# Altium footprint library WE-LAN.PcbLib: 41 footprints (part 3 of 3)
Each footprint in its own frame and in the unit in brackets; x right, y up, seen from the top. Pads: shape width x height; smd on the part's side, far side on the other; paste and mask are expansions set on the pad; w line width, h text height; cw(c..) or ccw(c..) is an arc to the next point about the centre after c.
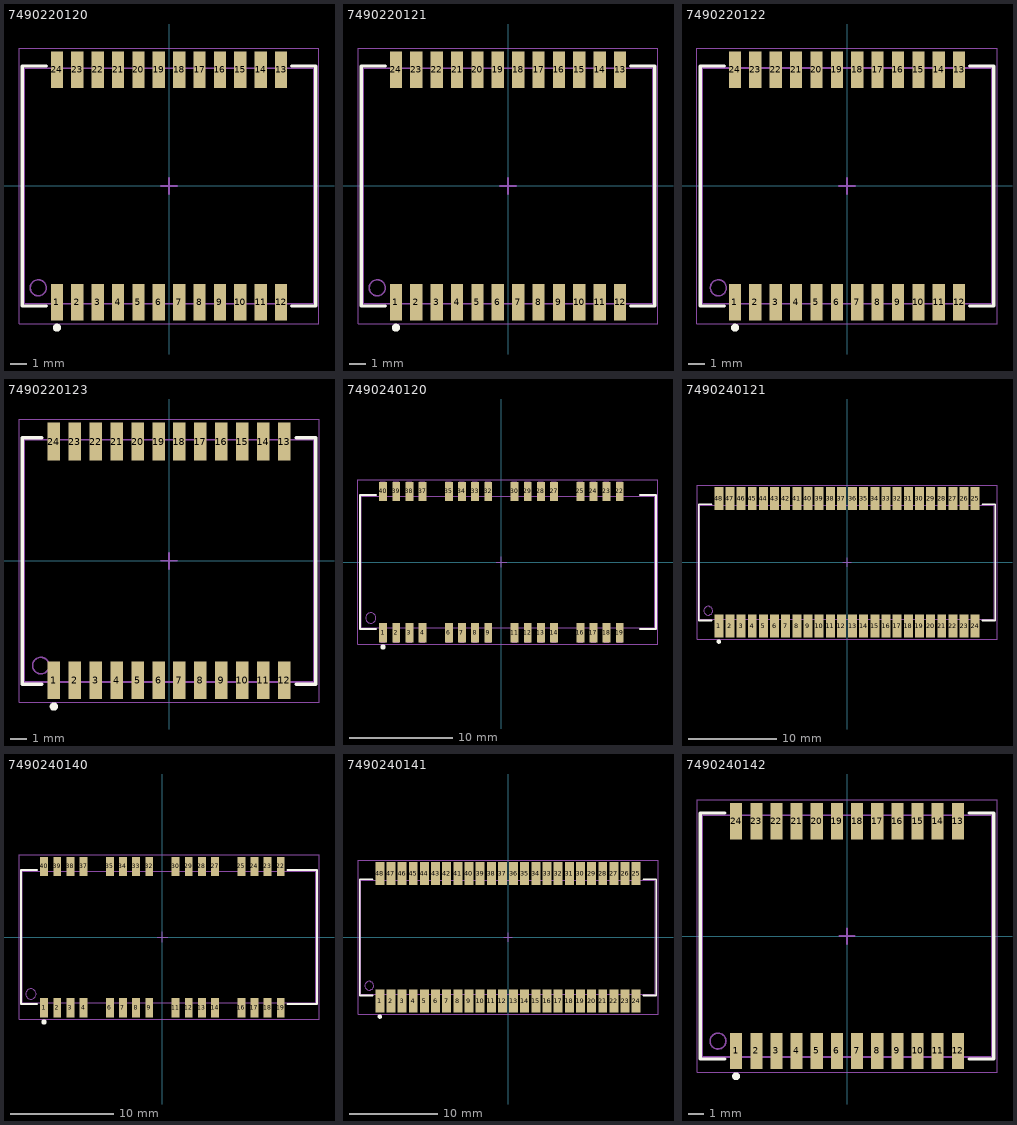
[diagram p2: the footprints below, top view; thin cyan lines are the x and y axes]

## 7490220120 [mm] "SMD LAN Transformers, body 18.04x14.7mm, 24-Leads"
height 6.15
pads (24):
  rect 0.76x2.29 smd: 1(-6.985,-7.24) 2(-5.715,-7.24) 3(-4.445,-7.24) 4(-3.175,-7.24) 5(-1.905,-7.24) 6(-0.635,-7.24) 7(0.635,-7.24) 8(1.905,-7.24) 9(3.175,-7.24) 10(4.445,-7.24) 11(5.715,-7.24) 12(6.985,-7.24) 13(6.985,7.24) 14(5.715,7.24) 15(4.445,7.24) 16(3.175,7.24) 17(1.905,7.24) 18(0.635,7.24) 19(-0.635,7.24) 20(-1.905,7.24) 21(-3.175,7.24) 22(-4.445,7.24) 23(-5.715,7.24) 24(-6.985,7.24)
Top Overlay:
  circle w0.25: c-6.985,-8.835 r0.125
  lines w0.2: -7.65,-7.475 -9.145,-7.475 -9.145,7.475 -7.65,7.475 ; 7.65,-7.475 9.145,-7.475 9.145,7.475 7.65,7.475
Top Assembly:
  circle w0.1: c-8.15,-6.35 r0.5
  lines w0.1: -9.02,-7.35 -9.02,7.35 9.02,7.35 9.02,-7.35 -9.02,-7.35
Top Designator:
  text ".Designator" at -3.647,-0.357 h1
Top Courtyard:
  lines w0.05: -9.35,-8.585 9.35,-8.585 9.35,8.585 -9.35,8.585 -9.35,-8.585
Top Component Center:
  lines w0.1: -0.5,0 0.5,0 ; 0,-0.5 0,0.5
3D body "7490220120.stp": height 6.15, standoff 0, extent -9.145,-8 9.145,8

## 7490220121 [mm] "SMD LAN Transformers, body 18.04x14.7mm, 24-Leads"
height 7.45
pads (24):
  rect 0.76x2.29 smd: 1(-6.985,-7.24) 2(-5.715,-7.24) 3(-4.445,-7.24) 4(-3.175,-7.24) 5(-1.905,-7.24) 6(-0.635,-7.24) 7(0.635,-7.24) 8(1.905,-7.24) 9(3.175,-7.24) 10(4.445,-7.24) 11(5.715,-7.24) 12(6.985,-7.24) 13(6.985,7.24) 14(5.715,7.24) 15(4.445,7.24) 16(3.175,7.24) 17(1.905,7.24) 18(0.635,7.24) 19(-0.635,7.24) 20(-1.905,7.24) 21(-3.175,7.24) 22(-4.445,7.24) 23(-5.715,7.24) 24(-6.985,7.24)
Top Overlay:
  circle w0.25: c-6.985,-8.835 r0.125
  lines w0.2: -7.65,-7.475 -9.145,-7.475 -9.145,7.475 -7.65,7.475 ; 7.65,-7.475 9.145,-7.475 9.145,7.475 7.65,7.475
Top Assembly:
  circle w0.1: c-8.15,-6.35 r0.5
  lines w0.1: -9.02,-7.35 -9.02,7.35 9.02,7.35 9.02,-7.35 -9.02,-7.35
Top Designator:
  text ".Designator" at -3.647,-0.357 h1
Top Courtyard:
  lines w0.05: -9.35,-8.585 9.35,-8.585 9.35,8.585 -9.35,8.585 -9.35,-8.585
Top Component Center:
  lines w0.1: -0.5,0 0.5,0 ; 0,-0.5 0,0.5
3D body "7490220121.stp": height 7.2, standoff 0, extent -8.75,-8 8.75,8

## 7490220122 [mm] "SMD LAN Transformers, body 18.04x14.7mm, 24-Leads"
height 9.05
pads (24):
  rect 0.76x2.29 smd: 1(-6.985,-7.24) 2(-5.715,-7.24) 3(-4.445,-7.24) 4(-3.175,-7.24) 5(-1.905,-7.24) 6(-0.635,-7.24) 7(0.635,-7.24) 8(1.905,-7.24) 9(3.175,-7.24) 10(4.445,-7.24) 11(5.715,-7.24) 12(6.985,-7.24) 13(6.985,7.24) 14(5.715,7.24) 15(4.445,7.24) 16(3.175,7.24) 17(1.905,7.24) 18(0.635,7.24) 19(-0.635,7.24) 20(-1.905,7.24) 21(-3.175,7.24) 22(-4.445,7.24) 23(-5.715,7.24) 24(-6.985,7.24)
Top Overlay:
  circle w0.25: c-6.985,-8.835 r0.125
  lines w0.2: -7.65,-7.475 -9.145,-7.475 -9.145,7.475 -7.65,7.475 ; 7.65,-7.475 9.145,-7.475 9.145,7.475 7.65,7.475
Top Assembly:
  circle w0.1: c-8.02,-6.35 r0.5
  lines w0.1: -9.02,-7.35 9.02,-7.35 9.02,7.35 -9.02,7.35 -9.02,-7.35
Top Designator:
  text ".Designator" at -3.647,-0.357 h1
Top Courtyard:
  lines w0.05: -9.35,-8.585 -9.35,8.58 9.345,8.58 9.345,-8.585 -9.35,-8.585
Top Component Center:
  lines w0.1: -0.5,0 0.5,0 ; 0,-0.5 0,0.5
3D body "7490220122.stp": height 9.05, standoff 0, extent -8.75,-8 8.75,8

## 7490220123 [mm] "SMD LAN Transformers, body 18.04x14.7mm, 24-Leads"
height 9.05
pads (24):
  rect 0.76x2.29 smd: 1(-6.985,-7.24) 2(-5.715,-7.24) 3(-4.445,-7.24) 4(-3.175,-7.24) 5(-1.905,-7.24) 6(-0.635,-7.24) 7(0.635,-7.24) 8(1.905,-7.24) 9(3.175,-7.24) 10(4.445,-7.24) 11(5.715,-7.24) 12(6.985,-7.24) 13(6.985,7.24) 14(5.715,7.24) 15(4.445,7.24) 16(3.175,7.24) 17(1.905,7.24) 18(0.635,7.24) 19(-0.635,7.24) 20(-1.905,7.24) 21(-3.175,7.24) 22(-4.445,7.24) 23(-5.715,7.24) 24(-6.985,7.24)
Top Overlay:
  circle w0.25: c-6.985,-8.835 r0.125
  lines w0.2: -7.7,-7.475 -8.9,-7.475 -8.9,7.475 -7.7,7.475 ; 7.7,-7.475 8.9,-7.475 8.9,7.475 7.7,7.475
Top Assembly:
  circle w0.1: c-7.775,-6.35 r0.5
  lines w0.1: -8.775,-7.35 8.775,-7.35 8.775,7.35 -8.775,7.35 -8.775,-7.35
Top Designator:
  text ".Designator" at -3.647,-0.357 h1
Top Courtyard:
  lines w0.05: -9.1,-8.585 -9.1,8.585 9.1,8.585 9.1,-8.585 -9.1,-8.585
Top Component Center:
  lines w0.1: -0.5,0 0.5,0 ; 0,-0.5 0,0.5
3D body "Download_STP_7490220123_rev1.stp": height 9.05, standoff 0, extent -9.145,-8 9.145,8

## 7490240120 [mm] "SMD LAN Transformers, body 28.32x12.7mm, 32-Leads"
height 12.7
pads (32):
  rect 0.76x1.86 smd: 1(-11.43,-6.815) 2(-10.16,-6.815) 3(-8.89,-6.815) 4(-7.62,-6.815) 6(-5.08,-6.815) 7(-3.81,-6.815) 8(-2.54,-6.815) 9(-1.27,-6.815) 11(1.27,-6.815) 12(2.54,-6.815) 13(3.81,-6.815) 14(5.08,-6.815) 16(7.62,-6.815) 17(8.89,-6.815) 18(10.16,-6.815) 19(11.43,-6.815) 22(11.43,6.815) 23(10.16,6.815) 24(8.89,6.815) 25(7.62,6.815) 27(5.08,6.815) 28(3.81,6.815) 29(2.54,6.815) 30(1.27,6.815) 32(-1.27,6.815) 33(-2.54,6.815) 34(-3.81,6.815) 35(-5.08,6.815) 37(-7.62,6.815) 38(-8.89,6.815) 39(-10.16,6.815) 40(-11.43,6.815)
Top Overlay:
  circle w0.25: c-11.43,-8.195 r0.125
  lines w0.2: -12.115,-6.475 -13.65,-6.475 -13.65,6.475 -12.115,6.475 ; 13.385,-6.475 14.92,-6.475 14.92,6.475 13.385,6.475
Top Assembly:
  circle w0.1: c-12.615,-5.4 r0.5
  lines w0.1: -11.655,-6.35 -11.655,-7.75 -11.205,-7.75 -11.205,-6.35 ; -11.655,6.35 -11.655,7.75 -11.205,7.75 -11.205,6.35 ; -10.385,-6.35 -10.385,-7.75 -9.935,-7.75 -9.935,-6.35 ; -10.385,6.35 -10.385,7.75 -9.935,7.75 -9.935,6.35 ; -9.115,-6.35 -9.115,-7.75 -8.665,-7.75 -8.665,-6.35 ; -9.115,6.35 -9.115,7.75 -8.665,7.75 -8.665,6.35 ; -7.845,-6.35 -7.845,-7.75 -7.395,-7.75 -7.395,-6.35 ; -7.845,6.35 -7.845,7.75 -7.395,7.75 -7.395,6.35 ; -5.305,-6.35 -5.305,-7.75 -4.855,-7.75 -4.855,-6.35 ; -5.305,6.35 -5.305,7.75 -4.855,7.75 -4.855,6.35 ; -4.035,-6.35 -4.035,-7.75 -3.585,-7.75 -3.585,-6.35 ; -4.035,6.35 -4.035,7.75 -3.585,7.75 -3.585,6.35 ; -2.765,-6.35 -2.765,-7.75 -2.315,-7.75 -2.315,-6.35 ; -2.765,6.35 -2.765,7.75 -2.315,7.75 -2.315,6.35 ; -1.495,-6.35 -1.495,-7.75 -1.045,-7.75 -1.045,-6.35 ; -1.495,6.35 -1.495,7.75 -1.045,7.75 -1.045,6.35 ; 1.045,-6.35 1.045,-7.75 1.495,-7.75 1.495,-6.35 ; 1.045,6.35 1.045,7.75 1.495,7.75 1.495,6.35 ; 2.315,-6.35 2.315,-7.75 2.765,-7.75 2.765,-6.35 ; 2.315,6.35 2.315,7.75 2.765,7.75 2.765,6.35 ; 3.585,-6.35 3.585,-7.75 4.035,-7.75 4.035,-6.35 ; 3.585,6.35 3.585,7.75 4.035,7.75 4.035,6.35 ; 4.855,-6.35 4.855,-7.75 5.305,-7.75 5.305,-6.35 ; 4.855,6.35 4.855,7.75 5.305,7.75 5.305,6.35 ; 7.395,-6.35 7.395,-7.75 7.845,-7.75 7.845,-6.35 ; 7.395,6.35 7.395,7.75 7.845,7.75 7.845,6.35 ; 8.665,-6.35 8.665,-7.75 9.115,-7.75 9.115,-6.35 ; 8.665,6.35 8.665,7.75 9.115,7.75 9.115,6.35 ; 9.935,-6.35 9.935,-7.75 10.385,-7.75 10.385,-6.35 ; 9.935,6.35 9.935,7.75 10.385,7.75 10.385,6.35 ; 11.205,-6.35 11.205,-7.75 11.655,-7.75 11.655,-6.35 ; 11.205,6.35 11.205,7.75 11.655,7.75 11.655,6.35 ; -13.525,-6.35 -13.525,6.35 14.795,6.35 14.795,-6.35 -13.525,-6.35
Top Designator:
  text ".Designator" at -3.647,-0.357 h1
Top Courtyard:
  lines w0.05: -13.85,-7.945 15.12,-7.945 15.12,7.945 -13.85,7.945 -13.85,-7.945
Top Component Center:
  lines w0.1: -0.5,0 0.5,0 ; 0,-0.5 0,0.5
3D body "7490240120.stp": height 12.7, standoff 0, extent -13.65,-7.745 14.92,7.745

## 7490240121 [mm] "SMD LAN Transformers, body 33.53x12.98mm, 48-Leads"
height 10.16
pads (48):
  rect 1.02x2.62 smd: 1(-14.605,-7.265) 2(-13.335,-7.265) 3(-12.065,-7.265) 4(-10.795,-7.265) 5(-9.525,-7.265) 6(-8.255,-7.265) 7(-6.985,-7.265) 8(-5.715,-7.265) 9(-4.445,-7.265) 10(-3.175,-7.265) 11(-1.905,-7.265) 12(-0.635,-7.265) 13(0.635,-7.265) 14(1.905,-7.265) 15(3.175,-7.265) 16(4.445,-7.265) 17(5.715,-7.265) 18(6.985,-7.265) 19(8.255,-7.265) 20(9.525,-7.265) 21(10.795,-7.265) 22(12.065,-7.265) 23(13.335,-7.265) 24(14.605,-7.265) 25(14.605,7.265) 26(13.335,7.265) 27(12.065,7.265) 28(10.795,7.265) 29(9.525,7.265) 30(8.255,7.265) 31(6.985,7.265) 32(5.715,7.265) 33(4.445,7.265) 34(3.175,7.265) 35(1.905,7.265) 36(0.635,7.265) 37(-0.635,7.265) 38(-1.905,7.265) 39(-3.175,7.265) 40(-4.445,7.265) 41(-5.715,7.265) 42(-6.985,7.265) 43(-8.255,7.265) 44(-9.525,7.265) 45(-10.795,7.265) 46(-12.065,7.265) 47(-13.335,7.265) 48(-14.605,7.265)
Top Overlay:
  circle w0.25: c-14.605,-9.025 r0.125
  lines w0.2: -15.4,-6.615 -16.89,-6.615 -16.89,6.615 -15.4,6.615 ; 15.4,-6.615 16.89,-6.615 16.89,6.615 15.4,6.615
Top Assembly:
  circle w0.1: c-15.815,-5.515 r0.5
  lines w0.1: -14.805,-6.49 -14.805,-7.99 -14.405,-7.99 -14.405,-6.49 ; -14.805,6.49 -14.805,7.99 -14.405,7.99 -14.405,6.49 ; -13.535,-6.49 -13.535,-7.99 -13.135,-7.99 -13.135,-6.49 ; -13.535,6.49 -13.535,7.99 -13.135,7.99 -13.135,6.49 ; -12.265,-6.49 -12.265,-7.99 -11.865,-7.99 -11.865,-6.49 ; -12.265,6.49 -12.265,7.99 -11.865,7.99 -11.865,6.49 ; -10.995,-6.49 -10.995,-7.99 -10.595,-7.99 -10.595,-6.49 ; -10.995,6.49 -10.995,7.99 -10.595,7.99 -10.595,6.49 ; -9.725,-6.49 -9.725,-7.99 -9.325,-7.99 -9.325,-6.49 ; -9.725,6.49 -9.725,7.99 -9.325,7.99 -9.325,6.49 ; -8.455,-6.49 -8.455,-7.99 -8.055,-7.99 -8.055,-6.49 ; -8.455,6.49 -8.455,7.99 -8.055,7.99 -8.055,6.49 ; -7.185,-6.49 -7.185,-7.99 -6.785,-7.99 -6.785,-6.49 ; -7.185,6.49 -7.185,7.99 -6.785,7.99 -6.785,6.49 ; -5.915,-6.49 -5.915,-7.99 -5.515,-7.99 -5.515,-6.49 ; -5.915,6.49 -5.915,7.99 -5.515,7.99 -5.515,6.49 ; -4.645,-6.49 -4.645,-7.99 -4.245,-7.99 -4.245,-6.49 ; -4.645,6.49 -4.645,7.99 -4.245,7.99 -4.245,6.49 ; -3.375,-6.49 -3.375,-7.99 -2.975,-7.99 -2.975,-6.49 ; -3.375,6.49 -3.375,7.99 -2.975,7.99 -2.975,6.49 ; -2.105,-6.49 -2.105,-7.99 -1.705,-7.99 -1.705,-6.49 ; -2.105,6.49 -2.105,7.99 -1.705,7.99 -1.705,6.49 ; -0.835,-6.49 -0.835,-7.99 -0.435,-7.99 -0.435,-6.49 ; -0.835,6.49 -0.835,7.99 -0.435,7.99 -0.435,6.49 ; 0.435,-6.49 0.435,-7.99 0.835,-7.99 0.835,-6.49 ; 0.435,6.49 0.435,7.99 0.835,7.99 0.835,6.49 ; 1.705,-6.49 1.705,-7.99 2.105,-7.99 2.105,-6.49 ; 1.705,6.49 1.705,7.99 2.105,7.99 2.105,6.49 ; 2.975,-6.49 2.975,-7.99 3.375,-7.99 3.375,-6.49 ; 2.975,6.49 2.975,7.99 3.375,7.99 3.375,6.49 ; 4.245,-6.49 4.245,-7.99 4.645,-7.99 4.645,-6.49 ; 4.245,6.49 4.245,7.99 4.645,7.99 4.645,6.49 ; 5.515,-6.49 5.515,-7.99 5.915,-7.99 5.915,-6.49 ; 5.515,6.49 5.515,7.99 5.915,7.99 5.915,6.49 ; 6.785,-6.49 6.785,-7.99 7.185,-7.99 7.185,-6.49 ; 6.785,6.49 6.785,7.99 7.185,7.99 7.185,6.49 ; 8.055,-6.49 8.055,-7.99 8.455,-7.99 8.455,-6.49 ; 8.055,6.49 8.055,7.99 8.455,7.99 8.455,6.49 ; 9.325,-6.49 9.325,-7.99 9.725,-7.99 9.725,-6.49 ; 9.325,6.49 9.325,7.99 9.725,7.99 9.725,6.49 ; 10.595,-6.49 10.595,-7.99 10.995,-7.99 10.995,-6.49 ; 10.595,6.49 10.595,7.99 10.995,7.99 10.995,6.49 ; 11.865,-6.49 11.865,-7.99 12.265,-7.99 12.265,-6.49 ; 11.865,6.49 11.865,7.99 12.265,7.99 12.265,6.49 ; 13.135,-6.49 13.135,-7.99 13.535,-7.99 13.535,-6.49 ; 13.135,6.49 13.135,7.99 13.535,7.99 13.535,6.49 ; 14.405,-6.49 14.405,-7.99 14.805,-7.99 14.805,-6.49 ; 14.405,6.49 14.405,7.99 14.805,7.99 14.805,6.49 ; -16.765,-6.49 16.765,-6.49 16.765,6.49 -16.765,6.49 -16.765,-6.49
Top Designator:
  text ".Designator" at -3.647,-0.357 h1
Top Courtyard:
  lines w0.05: -17.09,-8.775 -17.09,8.775 17.09,8.775 17.09,-8.775 -17.09,-8.775
Top Component Center:
  lines w0.1: -0.5,0 0.5,0 ; 0,-0.5 0,0.5
3D body "7490240121.stp": height 10, standoff 0, extent -16.7,-8 16.7,8

## 7490240140 [mm] "SMD LAN Transformers, body 28.32x12.7mm, 32-Leads"
height 12.7
pads (32):
  rect 0.76x1.86 smd: 1(-11.43,-6.815) 2(-10.16,-6.815) 3(-8.89,-6.815) 4(-7.62,-6.815) 6(-5.08,-6.815) 7(-3.81,-6.815) 8(-2.54,-6.815) 9(-1.27,-6.815) 11(1.27,-6.815) 12(2.54,-6.815) 13(3.81,-6.815) 14(5.08,-6.815) 16(7.62,-6.815) 17(8.89,-6.815) 18(10.16,-6.815) 19(11.43,-6.815) 22(11.43,6.815) 23(10.16,6.815) 24(8.89,6.815) 25(7.62,6.815) 27(5.08,6.815) 28(3.81,6.815) 29(2.54,6.815) 30(1.27,6.815) 32(-1.27,6.815) 33(-2.54,6.815) 34(-3.81,6.815) 35(-5.08,6.815) 37(-7.62,6.815) 38(-8.89,6.815) 39(-10.16,6.815) 40(-11.43,6.815)
Top Overlay:
  circle w0.25: c-11.43,-8.195 r0.125
  lines w0.2: -12.1,-6.475 -13.65,-6.475 -13.65,6.475 -12.1,6.475 ; 12.1,-6.475 14.92,-6.475 14.92,6.475 12.1,6.475
Top Assembly:
  circle w0.1: c-12.7,-5.5 r0.5
  lines w0.1: -13.525,-6.35 -13.525,6.35 14.795,6.35 14.795,-6.35 -13.525,-6.35
Top Designator:
  text ".Designator" at -3.647,-0.357 h1
Top Courtyard:
  lines w0.05: -13.85,-7.945 15.12,-7.945 15.12,7.945 -13.85,7.945 -13.85,-7.945
Top Component Center:
  lines w0.1: -0.5,0 0.5,0 ; 0,-0.5 0,0.5
3D body "7490240140.stp": height 12.7, standoff 0, extent -13.65,-7.745 14.92,7.745

## 7490240141 [mm] "SMD LAN Transformers, body 33.53x12.98mm, 48-Leads"
height 10.16
pads (48):
  rect 1.02x2.62 smd: 1(-14.605,-7.265) 2(-13.335,-7.265) 3(-12.065,-7.265) 4(-10.795,-7.265) 5(-9.525,-7.265) 6(-8.255,-7.265) 7(-6.985,-7.265) 8(-5.715,-7.265) 9(-4.445,-7.265) 10(-3.175,-7.265) 11(-1.905,-7.265) 12(-0.635,-7.265) 13(0.635,-7.265) 14(1.905,-7.265) 15(3.175,-7.265) 16(4.445,-7.265) 17(5.715,-7.265) 18(6.985,-7.265) 19(8.255,-7.265) 20(9.525,-7.265) 21(10.795,-7.265) 22(12.065,-7.265) 23(13.335,-7.265) 24(14.605,-7.265) 25(14.605,7.265) 26(13.335,7.265) 27(12.065,7.265) 28(10.795,7.265) 29(9.525,7.265) 30(8.255,7.265) 31(6.985,7.265) 32(5.715,7.265) 33(4.445,7.265) 34(3.175,7.265) 35(1.905,7.265) 36(0.635,7.265) 37(-0.635,7.265) 38(-1.905,7.265) 39(-3.175,7.265) 40(-4.445,7.265) 41(-5.715,7.265) 42(-6.985,7.265) 43(-8.255,7.265) 44(-9.525,7.265) 45(-10.795,7.265) 46(-12.065,7.265) 47(-13.335,7.265) 48(-14.605,7.265)
Top Overlay:
  circle w0.25: c-14.605,-9.025 r0.125
  lines w0.2: -15.4,-6.615 -16.89,-6.615 -16.89,6.615 -15.4,6.615 ; 15.4,-6.615 16.89,-6.615 16.89,6.615 15.4,6.615
Top Assembly:
  circle w0.1: c-15.815,-5.515 r0.5
  lines w0.1: -14.805,-6.49 -14.805,-7.99 -14.405,-7.99 -14.405,-6.49 ; -14.805,6.49 -14.805,7.99 -14.405,7.99 -14.405,6.49 ; -13.535,-6.49 -13.535,-7.99 -13.135,-7.99 -13.135,-6.49 ; -13.535,6.49 -13.535,7.99 -13.135,7.99 -13.135,6.49 ; -12.265,-6.49 -12.265,-7.99 -11.865,-7.99 -11.865,-6.49 ; -12.265,6.49 -12.265,7.99 -11.865,7.99 -11.865,6.49 ; -10.995,-6.49 -10.995,-7.99 -10.595,-7.99 -10.595,-6.49 ; -10.995,6.49 -10.995,7.99 -10.595,7.99 -10.595,6.49 ; -9.725,-6.49 -9.725,-7.99 -9.325,-7.99 -9.325,-6.49 ; -9.725,6.49 -9.725,7.99 -9.325,7.99 -9.325,6.49 ; -8.455,-6.49 -8.455,-7.99 -8.055,-7.99 -8.055,-6.49 ; -8.455,6.49 -8.455,7.99 -8.055,7.99 -8.055,6.49 ; -7.185,-6.49 -7.185,-7.99 -6.785,-7.99 -6.785,-6.49 ; -7.185,6.49 -7.185,7.99 -6.785,7.99 -6.785,6.49 ; -5.915,-6.49 -5.915,-7.99 -5.515,-7.99 -5.515,-6.49 ; -5.915,6.49 -5.915,7.99 -5.515,7.99 -5.515,6.49 ; -4.645,-6.49 -4.645,-7.99 -4.245,-7.99 -4.245,-6.49 ; -4.645,6.49 -4.645,7.99 -4.245,7.99 -4.245,6.49 ; -3.375,-6.49 -3.375,-7.99 -2.975,-7.99 -2.975,-6.49 ; -3.375,6.49 -3.375,7.99 -2.975,7.99 -2.975,6.49 ; -2.105,-6.49 -2.105,-7.99 -1.705,-7.99 -1.705,-6.49 ; -2.105,6.49 -2.105,7.99 -1.705,7.99 -1.705,6.49 ; -0.835,-6.49 -0.835,-7.99 -0.435,-7.99 -0.435,-6.49 ; -0.835,6.49 -0.835,7.99 -0.435,7.99 -0.435,6.49 ; 0.435,-6.49 0.435,-7.99 0.835,-7.99 0.835,-6.49 ; 0.435,6.49 0.435,7.99 0.835,7.99 0.835,6.49 ; 1.705,-6.49 1.705,-7.99 2.105,-7.99 2.105,-6.49 ; 1.705,6.49 1.705,7.99 2.105,7.99 2.105,6.49 ; 2.975,-6.49 2.975,-7.99 3.375,-7.99 3.375,-6.49 ; 2.975,6.49 2.975,7.99 3.375,7.99 3.375,6.49 ; 4.245,-6.49 4.245,-7.99 4.645,-7.99 4.645,-6.49 ; 4.245,6.49 4.245,7.99 4.645,7.99 4.645,6.49 ; 5.515,-6.49 5.515,-7.99 5.915,-7.99 5.915,-6.49 ; 5.515,6.49 5.515,7.99 5.915,7.99 5.915,6.49 ; 6.785,-6.49 6.785,-7.99 7.185,-7.99 7.185,-6.49 ; 6.785,6.49 6.785,7.99 7.185,7.99 7.185,6.49 ; 8.055,-6.49 8.055,-7.99 8.455,-7.99 8.455,-6.49 ; 8.055,6.49 8.055,7.99 8.455,7.99 8.455,6.49 ; 9.325,-6.49 9.325,-7.99 9.725,-7.99 9.725,-6.49 ; 9.325,6.49 9.325,7.99 9.725,7.99 9.725,6.49 ; 10.595,-6.49 10.595,-7.99 10.995,-7.99 10.995,-6.49 ; 10.595,6.49 10.595,7.99 10.995,7.99 10.995,6.49 ; 11.865,-6.49 11.865,-7.99 12.265,-7.99 12.265,-6.49 ; 11.865,6.49 11.865,7.99 12.265,7.99 12.265,6.49 ; 13.135,-6.49 13.135,-7.99 13.535,-7.99 13.535,-6.49 ; 13.135,6.49 13.135,7.99 13.535,7.99 13.535,6.49 ; 14.405,-6.49 14.405,-7.99 14.805,-7.99 14.805,-6.49 ; 14.405,6.49 14.405,7.99 14.805,7.99 14.805,6.49 ; -16.765,-6.49 16.765,-6.49 16.765,6.49 -16.765,6.49 -16.765,-6.49
Top Designator:
  text ".Designator" at -3.647,-0.357 h1
Top Courtyard:
  lines w0.05: -17.09,-8.775 -17.09,8.775 17.09,8.775 17.09,-8.775 -17.09,-8.775
Top Component Center:
  lines w0.1: -0.5,0 0.5,0 ; 0,-0.5 0,0.5
3D body "7490240141.stp": height 10, standoff 0, extent -16.7,-8 16.7,8

## 7490240142 [mm] "SMD LAN Transformers, body 18.25x15.24mm, 24-Leads"
height 10.02
pads (24):
  rect 0.76x2.29 smd: 1(-6.985,-7.24) 2(-5.715,-7.24) 3(-4.445,-7.24) 4(-3.175,-7.24) 5(-1.905,-7.24) 6(-0.635,-7.24) 7(0.635,-7.24) 8(1.905,-7.24) 9(3.175,-7.24) 10(4.445,-7.24) 11(5.715,-7.24) 12(6.985,-7.24) 13(6.985,7.24) 14(5.715,7.24) 15(4.445,7.24) 16(3.175,7.24) 17(1.905,7.24) 18(0.635,7.24) 19(-0.635,7.24) 20(-1.905,7.24) 21(-3.175,7.24) 22(-4.445,7.24) 23(-5.715,7.24) 24(-6.985,7.24)
Top Overlay:
  circle w0.25: c-6.985,-8.835 r0.125
  lines w0.2: -7.7,-7.745 -9.25,-7.745 -9.25,7.745 -7.7,7.745 ; 7.7,-7.745 9.25,-7.745 9.25,7.745 7.7,7.745
Top Assembly:
  circle w0.1: c-8.125,-6.62 r0.5
  lines w0.1: -9.125,-7.62 -9.125,7.62 9.125,7.62 9.125,-7.62 -9.125,-7.62
Top Designator:
  text ".Designator" at -3.647,-0.357 h1
Top Courtyard:
  lines w0.05: -9.45,-8.585 9.45,-8.585 9.45,8.585 -9.45,8.585 -9.45,-8.585
Top Component Center:
  lines w0.1: -0.5,0 0.5,0 ; 0,-0.5 0,0.5
3D body "7490240142.stp": height 10.02, standoff 0, extent -9.125,-7.97 9.125,7.97